# Altium schematic symbol library L CTX25.SchLib: 1 symbol
Pins are listed as number, name and electrical type; pins without a type are passive.

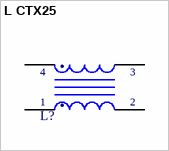
[diagram p0: symbol L CTX25]

## L CTX25
designator L?, comment CTX25  (value not drawn)
Inductor, Power
pins: 1, 2, 3, 4
text: .